# Altium schematic symbol library Resistor_SMD_Sch.SchLib: 6 symbols
Pins are listed as number, name and electrical type; pins without a type are passive.

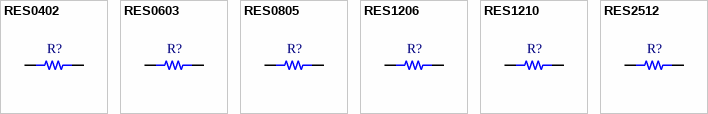
[diagram p0: symbols RES0402 to RES2512]

## RES0402
designator R?
0402 SMD Resistor; Tolerance: 1%; Power: 1/10W; Temp Coefficient: 100ppm; Package: 0402; ComponentLink1Description: Link; ComponentLink1URL: *; Part Number: *
footprint RES 0402_1005 (Chip Resistor, 2-Leads, Body 1.0x0.5mm, IPC Medium Density)
pins: 1, 2

## RES0603
designator R?
0603 SMD Resistor; Tolerance: 1%; Power: 1/10W; Temp Coefficient: 100ppm; Package: 0603; ComponentLink1Description: Link; ComponentLink1URL: *; Part Number: *
footprint RES 0603_1608 (Chip Resistor, 2-Leads, Body 1.60x0.80mm, IPC Medium Density)
pins: 1, 2

## RES0805
designator R?
0805 SMD Resistor; Tolerance: 1%; Power: 1/10W; Temp Coefficient: 100ppm; Package: 0805; ComponentLink1Description: Link; ComponentLink1URL: *; Part Number: *
footprint RES 0805_2012 (Chip Resistor, 2-Leads, Body 2.00x1.25mm, IPC Medium Density)
pins: 1, 2

## RES1206
designator R?
1206 SMD Resistor; Tolerance: 1%; Power: 1/10W; Temp Coefficient: 100ppm; Package: 1206; ComponentLink1Description: Link; ComponentLink1URL: *; Part Number: *
footprint RES 1206_3216 (Chip Resistor, 2-Leads, Body 3.13x1.55mm, IPC Medium Density)
pins: 1, 2

## RES1210
designator R?
1210 SMD Resistor; Tolerance: 1%; Power: 1/10W; Temp Coefficient: 100ppm; Package: 1210; ComponentLink1Description: Link; ComponentLink1URL: *; Part Number: *
footprint RES 1210_3225 (Chip Resistor, 2-Leads, Body 3.1x2.6mm, IPC Medium Density)
pins: 1, 2

## RES2512
designator R?
2512 SMD Resistor; Tolerance: 1%; Power: 2W; Temp Coefficient: 100ppm; Package: 2512; ComponentLink1Description: Link; ComponentLink1URL: *; Part Number: *
footprint RES 2512_6432 (Chip Resistor, 2-Leads, Body 6,40x3,20mm, IPC Medium Density)
pins: 1, 2